# EAGLE library part ESPRUINO_PICO_0.05_SMALL (library espruino_pico)
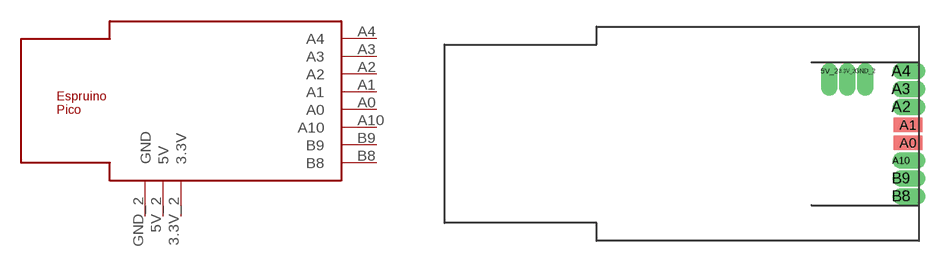
[diagram p6: symbol with the pads of ESPRUINO_PICO_0.05_SMALL; footprint ESPRUINO_PICO_0.05_SMALL]

Designator prefix -

## ESPRUINO_PICO_0.05_SMALL  [ESPRUINO_PICO_0.05_SMALL]
3.3V_2  3.3V
5V_2  5V
A0  A0
A1  A1
A2  A2
A3  A3
A4  A4
A10  A10
B8  B8
B9  B9
GND_2  GND

## Footprint ESPRUINO_PICO_0.05_SMALL (pad centres in mm)
drill 0.65 pad 0.965 offset: 3.3V_2 1.27,4.445; 5V_2 0,4.445; A2 5.08,1.905; A3 5.08,3.175; A4 5.08,4.445; A10 5.08,-1.905; B8 5.08,-4.445; B9 5.08,-3.175; GND_2 2.54,4.445
smd 2.032 x 1.016: A0 5.588,-0.635; A1 5.588,0.635